# Altium footprint library RQ1E075XNTCR.PcbLib: 1 footprints
Each footprint in its own frame and in the unit in brackets; x right, y up, seen from the top. Pads: shape width x height; smd on the part's side, far side on the other; paste and mask are expansions set on the pad; w line width, h text height; cw(c..) or ccw(c..) is an arc to the next point about the centre after c.
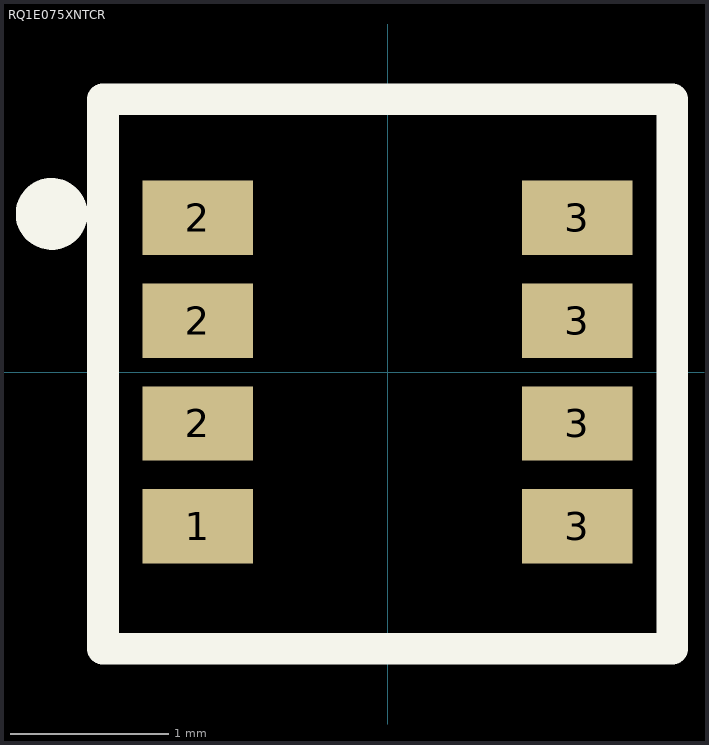
[diagram p0: the footprint, top view; thin cyan lines are the x and y axes]

## RQ1E075XNTCR [mm]
pads (8):
  rect 0.7x0.47 smd mask+0.05: 1(-1.2,-0.975) 2(-1.2,-0.325) 2(-1.2,0.325) 2(-1.2,0.975) 3(1.2,-0.975) 3(1.2,-0.325) 3(1.2,0.325) 3(1.2,0.975)
Top Overlay:
  circle w0.254: c-2.125,1 r0.1
  lines w0.2: -1.8,-1.75 -1.8,1.725 1.8,1.725 1.8,-1.75 -1.8,-1.75
Top Assembly:
  circle w0.254: c-1.2,0.975 r0.1
  lines w0.1: -1.8,-1.75 -1.8,1.725 1.8,1.725 1.8,-1.75 -1.8,-1.75
  text "'.Designator'" at -0.925,-0.35 h0.7
3D body "mosfet.stp": height 0.85, standoff 0, extent -1.45,-1.55 1.45,1.55